# EAGLE library part XCV150_BG256 (library xilinx-xcv)
xcv150_bg256 edit this description Auto generated by make-symbol-device-package-bsdl.ulp Rev. 26 Source: xcv150_bg256.bsd
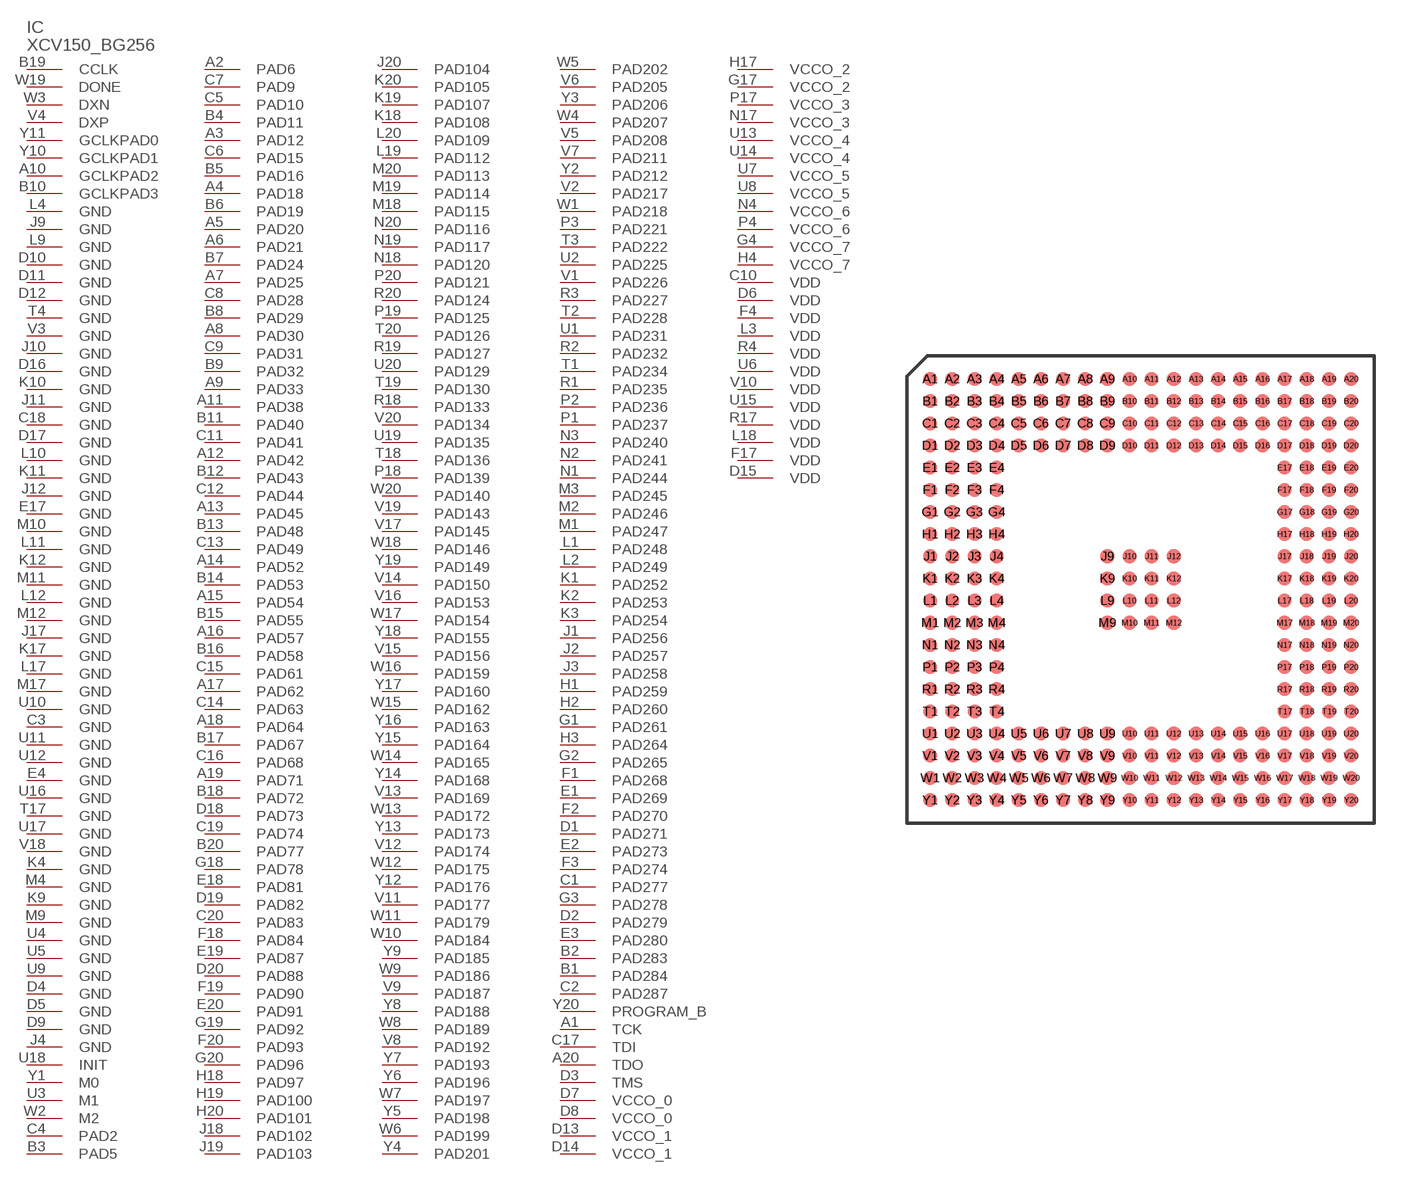
[diagram p29: symbol with the pads of BG256; footprint BG256]

Designator prefix IC

## XCV150_BG256 (OC_FARNELL: unknown; OC_NEWARK: unknown)  [BG256]
A1  TCK  in
A2  PAD6
A3  PAD12
A4  PAD18
A5  PAD20
A6  PAD21
A7  PAD25
A8  PAD30
A9  PAD33
A10  GCLKPAD2  in
A11  PAD38
A12  PAD42
A13  PAD45
A14  PAD52
A15  PAD54
A16  PAD57
A17  PAD62
A18  PAD64
A19  PAD71
A20  TDO  out
B1  PAD284
B2  PAD283
B3  PAD5
B4  PAD11
B5  PAD16
B6  PAD19
B7  PAD24
B8  PAD29
B9  PAD32
B10  GCLKPAD3  in
B11  PAD40
B12  PAD43
B13  PAD48
B14  PAD53
B15  PAD55
B16  PAD58
B17  PAD67
B18  PAD72
B19  CCLK
B20  PAD77
C1  PAD277
C2  PAD287
C3  GND  pwr
C4  PAD2
C5  PAD10
C6  PAD15
C7  PAD9
C8  PAD28
C9  PAD31
C10  VDD  pwr
C11  PAD41
C12  PAD44
C13  PAD49
C14  PAD63
C15  PAD61
C16  PAD68
C17  TDI  in
C18  GND  pwr
C19  PAD74
C20  PAD83
D1  PAD271
D2  PAD279
D3  TMS  in
D4  GND  pwr
D5  GND  pwr
D6  VDD  pwr
D7  VCCO_0  pwr
D8  VCCO_0  pwr
D9  GND  pwr
D10  GND  pwr
D11  GND  pwr
D12  GND  pwr
D13  VCCO_1  pwr
D14  VCCO_1  pwr
D15  VDD  pwr
D16  GND  pwr
D17  GND  pwr
D18  PAD73
D19  PAD82
D20  PAD88
E1  PAD269
E2  PAD273
E3  PAD280
E4  GND  pwr
E17  GND  pwr
E18  PAD81
E19  PAD87
E20  PAD91
F1  PAD268
F2  PAD270
F3  PAD274
F4  VDD  pwr
F17  VDD  pwr
F18  PAD84
F19  PAD90
F20  PAD93
G1  PAD261
G2  PAD265
G3  PAD278
G4  VCCO_7  pwr
G17  VCCO_2  pwr
G18  PAD78
G19  PAD92
G20  PAD96
H1  PAD259
H2  PAD260
H3  PAD264
H4  VCCO_7  pwr
H17  VCCO_2  pwr
H18  PAD97
H19  PAD100
H20  PAD101
J1  PAD256
J2  PAD257
J3  PAD258
J4  GND  pwr
J9  GND  pwr
J10  GND  pwr
J11  GND  pwr
J12  GND  pwr
J17  GND  pwr
J18  PAD102
J19  PAD103
J20  PAD104
K1  PAD252
K2  PAD253
K3  PAD254
K4  GND  pwr
K9  GND  pwr
K10  GND  pwr
K11  GND  pwr
K12  GND  pwr
K17  GND  pwr
K18  PAD108
K19  PAD107
K20  PAD105
L1  PAD248
L2  PAD249
L3  VDD  pwr
L4  GND  pwr
L9  GND  pwr
L10  GND  pwr
L11  GND  pwr
L12  GND  pwr
L17  GND  pwr
L18  VDD  pwr
L19  PAD112
L20  PAD109
M1  PAD247
M2  PAD246
M3  PAD245
M4  GND  pwr
M9  GND  pwr
M10  GND  pwr
M11  GND  pwr
M12  GND  pwr
M17  GND  pwr
M18  PAD115
M19  PAD114
M20  PAD113
N1  PAD244
N2  PAD241
N3  PAD240
N4  VCCO_6  pwr
N17  VCCO_3  pwr
N18  PAD120
N19  PAD117
N20  PAD116
P1  PAD237
P2  PAD236
P3  PAD221
P4  VCCO_6  pwr
P17  VCCO_3  pwr
P18  PAD139
P19  PAD125
P20  PAD121
R1  PAD235
R2  PAD232
R3  PAD227
R4  VDD  pwr
R17  VDD  pwr
R18  PAD133
R19  PAD127
R20  PAD124
T1  PAD234
T2  PAD228
T3  PAD222
T4  GND  pwr
T17  GND  pwr
T18  PAD136
T19  PAD130
T20  PAD126
U1  PAD231
U2  PAD225
U3  M1  in
U4  GND  pwr
U5  GND  pwr
U6  VDD  pwr
U7  VCCO_5  pwr
U8  VCCO_5  pwr
U9  GND  pwr
U10  GND  pwr
U11  GND  pwr
U12  GND  pwr
U13  VCCO_4  pwr
U14  VCCO_4  pwr
U15  VDD  pwr
U16  GND  pwr
U17  GND  pwr
U18  INIT
U19  PAD135
U20  PAD129
V1  PAD226
V2  PAD217
V3  GND  pwr
V4  DXP  pas
V5  PAD208
V6  PAD205
V7  PAD211
V8  PAD192
V9  PAD187
V10  VDD  pwr
V11  PAD177
V12  PAD174
V13  PAD169
V14  PAD150
V15  PAD156
V16  PAD153
V17  PAD145
V18  GND  pwr
V19  PAD143
V20  PAD134
W1  PAD218
W2  M2  in
W3  DXN  pas
W4  PAD207
W5  PAD202
W6  PAD199
W7  PAD197
W8  PAD189
W9  PAD186
W10  PAD184
W11  PAD179
W12  PAD175
W13  PAD172
W14  PAD165
W15  PAD162
W16  PAD159
W17  PAD154
W18  PAD146
W19  DONE
W20  PAD140
Y1  M0  in
Y2  PAD212
Y3  PAD206
Y4  PAD201
Y5  PAD198
Y6  PAD196
Y7  PAD193
Y8  PAD188
Y9  PAD185
Y10  GCLKPAD1  in
Y11  GCLKPAD0  in
Y12  PAD176
Y13  PAD173
Y14  PAD168
Y15  PAD164
Y16  PAD163
Y17  PAD160
Y18  PAD155
Y19  PAD149
Y20  PROGRAM_B  in

## Footprint BG256 (pad centres in mm)
xcv100_bg256_1532 edit this description Auto generated by make-symbol-device-package-bsdl.ulp Rev. 25 Source: xcv100_bg256_1532.bsd
smd 0.8 x 0.8: A1 -12.065,12.065; A2 -10.795,12.065; A3 -9.525,12.065; A4 -8.255,12.065; A5 -6.985,12.065; A6 -5.715,12.065; A7 -4.445,12.065; A8 -3.175,12.065; A9 -1.905,12.065; A10 -0.635,12.065; A11 0.635,12.065; A12 1.905,12.065; A13 3.175,12.065; A14 4.445,12.065; A15 5.715,12.065; A16 6.985,12.065; A17 8.255,12.065; A18 9.525,12.065; A19 10.795,12.065; A20 12.065,12.065; B1 -12.065,10.795; B2 -10.795,10.795; B3 -9.525,10.795; B4 -8.255,10.795; B5 -6.985,10.795; B6 -5.715,10.795; B7 -4.445,10.795; B8 -3.175,10.795; B9 -1.905,10.795; B10 -0.635,10.795; B11 0.635,10.795; B12 1.905,10.795; B13 3.175,10.795; B14 4.445,10.795; B15 5.715,10.795; B16 6.985,10.795; B17 8.255,10.795; B18 9.525,10.795; B19 10.795,10.795; B20 12.065,10.795; C1 -12.065,9.525; C2 -10.795,9.525; C3 -9.525,9.525; C4 -8.255,9.525; C5 -6.985,9.525; C6 -5.715,9.525; C7 -4.445,9.525; C8 -3.175,9.525; C9 -1.905,9.525; C10 -0.635,9.525; C11 0.635,9.525; C12 1.905,9.525; C13 3.175,9.525; C14 4.445,9.525; C15 5.715,9.525; C16 6.985,9.525; C17 8.255,9.525; C18 9.525,9.525; C19 10.795,9.525; C20 12.065,9.525; D1 -12.065,8.255; D2 -10.795,8.255; D3 -9.525,8.255; D4 -8.255,8.255; D5 -6.985,8.255; D6 -5.715,8.255; D7 -4.445,8.255; D8 -3.175,8.255; D9 -1.905,8.255; D10 -0.635,8.255; D11 0.635,8.255; D12 1.905,8.255; D13 3.175,8.255; D14 4.445,8.255; D15 5.715,8.255; D16 6.985,8.255; D17 8.255,8.255; D18 9.525,8.255; D19 10.795,8.255; D20 12.065,8.255; E1 -12.065,6.985; E2 -10.795,6.985; E3 -9.525,6.985; E4 -8.255,6.985; E17 8.255,6.985; E18 9.525,6.985; E19 10.795,6.985; E20 12.065,6.985; F1 -12.065,5.715; F2 -10.795,5.715; F3 -9.525,5.715; F4 -8.255,5.715; F17 8.255,5.715; F18 9.525,5.715; F19 10.795,5.715; F20 12.065,5.715; G1 -12.065,4.445; G2 -10.795,4.445; G3 -9.525,4.445; G4 -8.255,4.445; G17 8.255,4.445; G18 9.525,4.445; G19 10.795,4.445; G20 12.065,4.445; H1 -12.065,3.175; H2 -10.795,3.175; H3 -9.525,3.175; H4 -8.255,3.175; H17 8.255,3.175; H18 9.525,3.175; H19 10.795,3.175; H20 12.065,3.175; J1 -12.065,1.905; J2 -10.795,1.905; J3 -9.525,1.905; J4 -8.255,1.905; J9 -1.905,1.905; J10 -0.635,1.905; J11 0.635,1.905; J12 1.905,1.905; J17 8.255,1.905; J18 9.525,1.905; J19 10.795,1.905; J20 12.065,1.905; K1 -12.065,0.635; K2 -10.795,0.635; K3 -9.525,0.635; K4 -8.255,0.635; K9 -1.905,0.635; K10 -0.635,0.635; K11 0.635,0.635; K12 1.905,0.635; K17 8.255,0.635; K18 9.525,0.635; K19 10.795,0.635; K20 12.065,0.635; L1 -12.065,-0.635; L2 -10.795,-0.635; L3 -9.525,-0.635; L4 -8.255,-0.635; L9 -1.905,-0.635; L10 -0.635,-0.635; L11 0.635,-0.635; L12 1.905,-0.635; L17 8.255,-0.635; L18 9.525,-0.635; L19 10.795,-0.635; L20 12.065,-0.635; M1 -12.065,-1.905; M2 -10.795,-1.905; M3 -9.525,-1.905; M4 -8.255,-1.905; M9 -1.905,-1.905; M10 -0.635,-1.905; M11 0.635,-1.905; M12 1.905,-1.905; M17 8.255,-1.905; M18 9.525,-1.905; M19 10.795,-1.905; M20 12.065,-1.905; N1 -12.065,-3.175; N2 -10.795,-3.175; N3 -9.525,-3.175; N4 -8.255,-3.175; N17 8.255,-3.175; N18 9.525,-3.175; N19 10.795,-3.175; N20 12.065,-3.175; P1 -12.065,-4.445; P2 -10.795,-4.445; P3 -9.525,-4.445; P4 -8.255,-4.445; P17 8.255,-4.445; P18 9.525,-4.445; P19 10.795,-4.445; P20 12.065,-4.445; R1 -12.065,-5.715; R2 -10.795,-5.715; R3 -9.525,-5.715; R4 -8.255,-5.715; R17 8.255,-5.715; R18 9.525,-5.715; R19 10.795,-5.715; R20 12.065,-5.715; T1 -12.065,-6.985; T2 -10.795,-6.985; T3 -9.525,-6.985; T4 -8.255,-6.985; T17 8.255,-6.985; T18 9.525,-6.985; T19 10.795,-6.985; T20 12.065,-6.985; U1 -12.065,-8.255; U2 -10.795,-8.255; U3 -9.525,-8.255; U4 -8.255,-8.255; U5 -6.985,-8.255; U6 -5.715,-8.255; U7 -4.445,-8.255; U8 -3.175,-8.255; U9 -1.905,-8.255; U10 -0.635,-8.255; U11 0.635,-8.255; U12 1.905,-8.255; U13 3.175,-8.255; U14 4.445,-8.255; U15 5.715,-8.255; U16 6.985,-8.255; U17 8.255,-8.255; U18 9.525,-8.255; U19 10.795,-8.255; U20 12.065,-8.255; V1 -12.065,-9.525; V2 -10.795,-9.525; V3 -9.525,-9.525; V4 -8.255,-9.525; V5 -6.985,-9.525; V6 -5.715,-9.525; V7 -4.445,-9.525; V8 -3.175,-9.525; V9 -1.905,-9.525; V10 -0.635,-9.525; V11 0.635,-9.525; V12 1.905,-9.525; V13 3.175,-9.525; V14 4.445,-9.525; V15 5.715,-9.525; V16 6.985,-9.525; V17 8.255,-9.525; V18 9.525,-9.525; V19 10.795,-9.525; V20 12.065,-9.525; W1 -12.065,-10.795; W2 -10.795,-10.795; W3 -9.525,-10.795; W4 -8.255,-10.795; W5 -6.985,-10.795; W6 -5.715,-10.795; W7 -4.445,-10.795; W8 -3.175,-10.795; W9 -1.905,-10.795; W10 -0.635,-10.795; W11 0.635,-10.795; W12 1.905,-10.795; W13 3.175,-10.795; W14 4.445,-10.795; W15 5.715,-10.795; W16 6.985,-10.795; W17 8.255,-10.795; W18 9.525,-10.795; W19 10.795,-10.795; W20 12.065,-10.795; Y1 -12.065,-12.065; Y2 -10.795,-12.065; Y3 -9.525,-12.065; Y4 -8.255,-12.065; Y5 -6.985,-12.065; Y6 -5.715,-12.065; Y7 -4.445,-12.065; Y8 -3.175,-12.065; Y9 -1.905,-12.065; Y10 -0.635,-12.065; Y11 0.635,-12.065; Y12 1.905,-12.065; Y13 3.175,-12.065; Y14 4.445,-12.065; Y15 5.715,-12.065; Y16 6.985,-12.065; Y17 8.255,-12.065; Y18 9.525,-12.065; Y19 10.795,-12.065; Y20 12.065,-12.065